# EAGLE library part TPS51100 (library IC)
Texas Instruments 3A Sink/Source DDR Termination Regulator
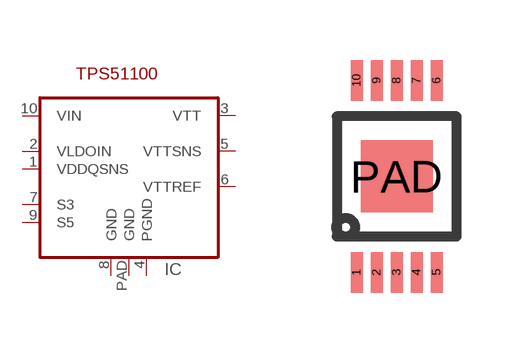
[diagram p77: symbol with the pads of MSOP-10_PWP; footprint MSOP-10_PWP]

Designator prefix IC

## TPS51100  [MSOP-10_PWP]
1  VDDQSNS  pwr
2  VLDOIN  pwr
3  VTT  pwr
4  PGND  pwr
5  VTTSNS  pwr
6  VTTREF  pwr
7  S3
8  GND  pwr
9  S5
10  VIN  pwr
PAD  GND  pwr

## Footprint MSOP-10_PWP (pad centres in mm)
10 pin MSOP with thermal pad
smd 0.3 x 1.02: 1 -1,-2.4; 2 -0.5,-2.4; 3 0,-2.4; 4 0.5,-2.4; 5 1,-2.4; 6 1,2.4; 7 0.5,2.4; 8 0,2.4; 9 -0.5,2.4; 10 -1,2.4
smd 1.8 x 1.8: PAD 0,0